# Altium footprint library 2230_TubePitotDeporte_Library_v1.0.0.PcbLib: 15 footprints
Each footprint in its own frame and in the unit in brackets; x right, y up, seen from the top. Pads: shape width x height; smd on the part's side, far side on the other; paste and mask are expansions set on the pad; w line width, h text height; cw(c..) or ccw(c..) is an arc to the next point about the centre after c.
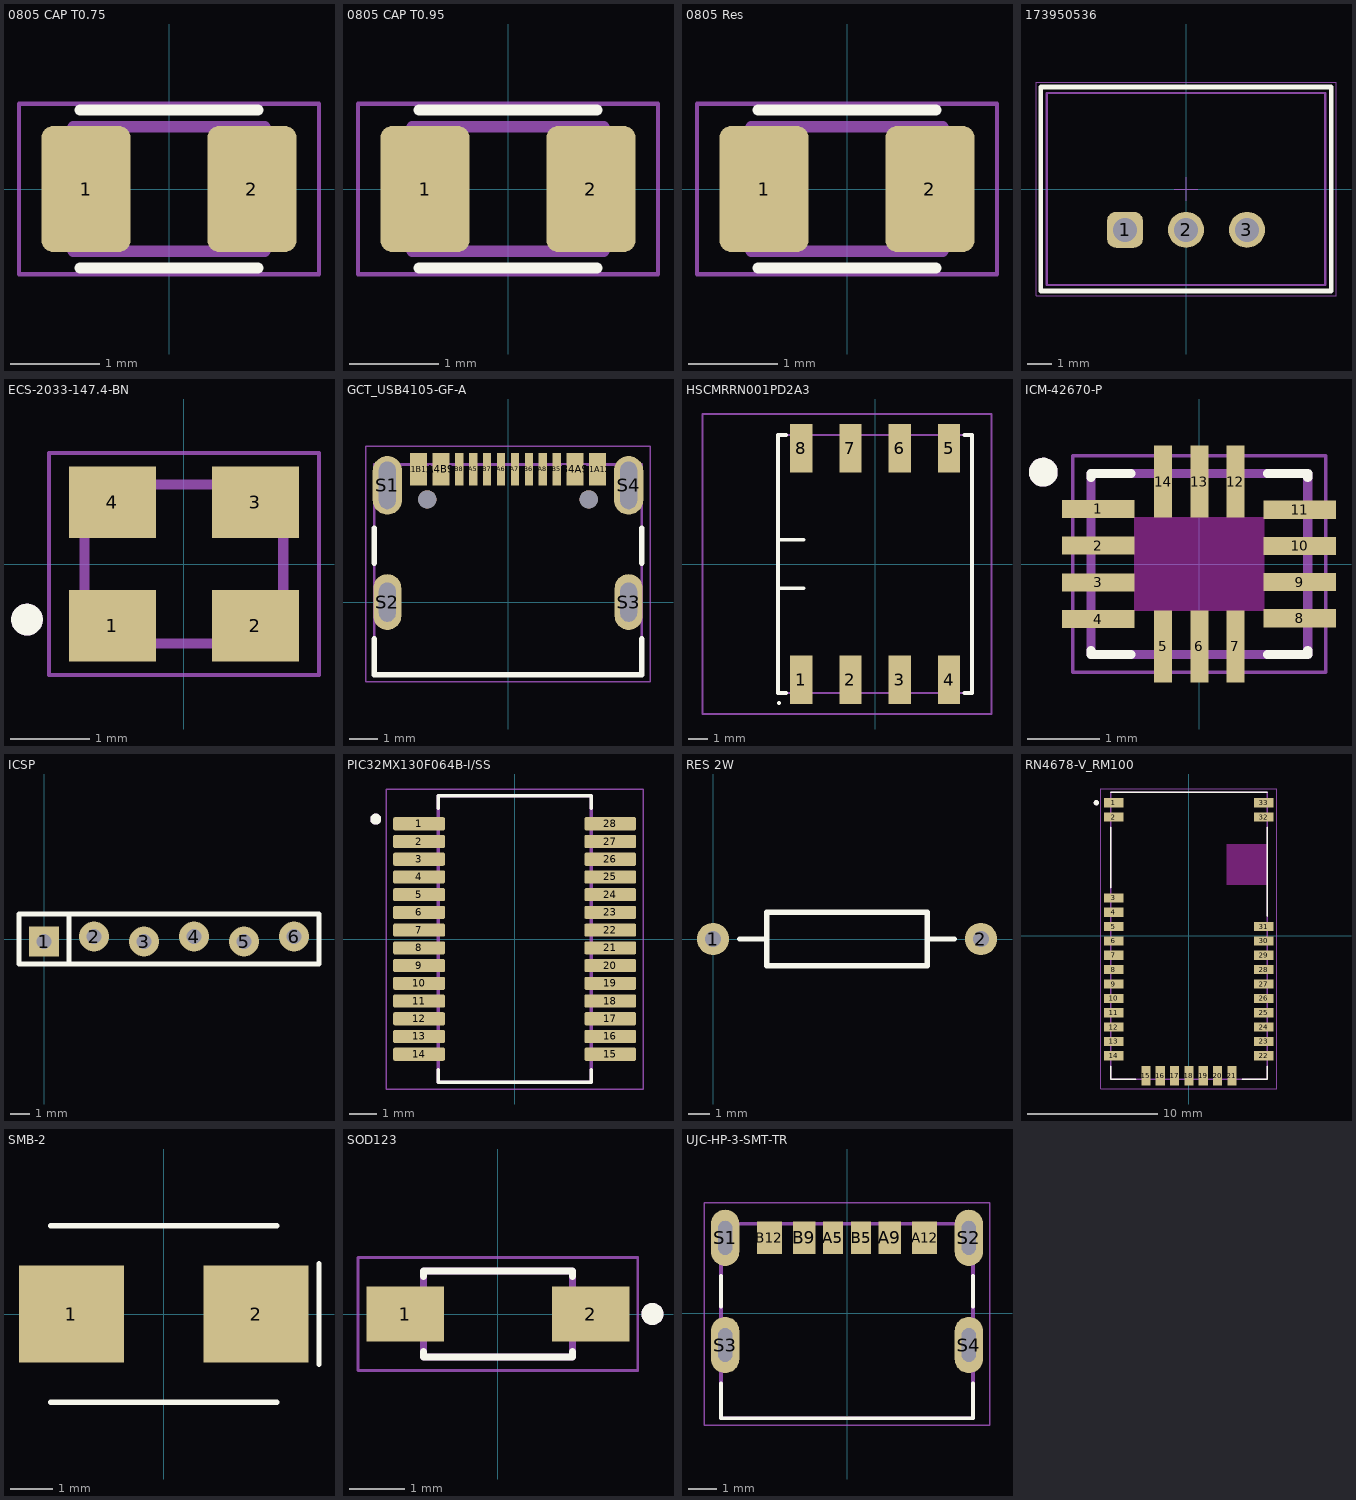
[diagram p0: the footprints below, top view; thin cyan lines are the x and y axes]

## 0805 CAP T0.75 [mm] "Small chip"
pads (2):
  rrect25% 1x1.42 smd: 1(-0.935,0) 2(0.935,0)
Top Overlay:
  lines w0.127: -1,-0.89 1,-0.89 ; -1,0.89 1,0.89
Top 3D Body:
  lines w0.127: -1.08,-0.7 -1.08,0.7 1.08,0.7 1.08,-0.7 -1.08,-0.7
Top Courtyard:
  lines w0.05: -1.69,-0.96 -1.69,0.96 1.69,0.96 1.69,-0.96 -1.69,-0.96
3D body "CAPC-0805-T0.75-BN.stp": height 0.75, standoff 0, extent -1.05,-0.675 1.05,0.675

## 0805 CAP T0.95 [mm]
pads (2):
  rrect25% 1x1.42 smd: 1(-0.935,0) 2(0.935,0)
Top Overlay:
  lines w0.127: -1,-0.89 1,-0.89 ; -1,0.89 1,0.89
Top 3D Body:
  lines w0.127: -1.08,-0.7 -1.08,0.7 1.08,0.7 1.08,-0.7 -1.08,-0.7
Top Courtyard:
  lines w0.05: -1.69,-0.96 -1.69,0.96 1.69,0.96 1.69,-0.96 -1.69,-0.96
3D body "CAPC-0805-T0.95-BN.stp": height 0.95, standoff 0, extent -1.05,-0.675 1.05,0.675

## 0805 Res [mm]
pads (2):
  rrect25% 1x1.42 smd: 1(-0.935,0) 2(0.935,0)
Top Overlay:
  lines w0.127: -1,-0.89 1,-0.89 ; -1,0.89 1,0.89
Top 3D Body:
  lines w0.127: -1.08,-0.7 -1.08,0.7 1.08,0.7 1.08,-0.7 -1.08,-0.7
Top Courtyard:
  lines w0.05: -1.69,-0.96 -1.69,0.96 1.69,0.96 1.69,-0.96 -1.69,-0.96
3D body "RES0805.stp": height 0.5, standoff 0, extent -1,-0.62 1,0.63

## 173950536 [mm] "Alim Buck All In"
pads (3):
  rrect50% 1.5x1.5 hole 1: 1(-2.54,-1.7)
  round 1.5 hole 1: 2(0,-1.7) 3(2.54,-1.7)
Top Overlay:
  lines w0.2: -6.05,-4.25 -6.05,4.25 6.05,4.25 6.05,-4.25 -6.05,-4.25
Top Component Outline:
  lines w0.1: -5.8,-4 5.8,-4 5.8,4 -5.8,4 -5.8,-4
Top 3D Body:
  lines w0.1: -5.8,-4 5.8,-4 5.8,4 -5.8,4 -5.8,-4
Top Courtyard:
  lines w0.05: -0.5,0 0.5,0 ; 0,-0.5 0,0.5 ; -6.25,-4.45 6.25,-4.45 6.25,4.45 -6.25,4.45 -6.25,-4.45
3D body "173010535.stp": height 10.5, standoff -4, extent -5.8,-4 5.8,4

## ECS-2033-147.4-BN [mm]
pads (4):
  rect 1.1x0.9 smd: 1(-0.9,-0.776) 2(0.9,-0.776) 3(0.9,0.776) 4(-0.9,0.776)
Top Overlay:
  circle w0.2: c-1.977,-0.7 r0.1
Top 3D Body:
  circle w0.2: c-1.977,-0.7 r0.1
  lines w0.127: -1.25,-1 1.25,-1 1.25,1 -1.25,1 -1.25,-1
Top Courtyard:
  lines w0.05: -1.7,-1.4 1.7,-1.4 1.7,1.4 -1.7,1.4 -1.7,-1.4
3D body "ECS-2033-147.4-BN.STEP": height 1, standoff 0, extent -1.25,-1 1.25,1

## GCT_USB4105-GF-A [mm]
pads (18):
  rect 0.6x1.15 smd: A1B12(-3.2,4.755) A4B9(-2.4,4.755) B1A12(3.2,4.755) B4A9(2.4,4.755)
  rect 0.3x1.15 smd: A5(-1.25,4.755) A6(-0.25,4.755) A7(0.25,4.755) A8(1.25,4.755) B5(1.75,4.755) B6(0.75,4.755) B7(-0.75,4.755) B8(-1.75,4.755)
  oval 1.05x2.1 hole 0.6 slot 1.7 at 90 deg: S1(-4.32,4.18) S4(4.32,4.18)
  oval 1x2 hole 0.6 slot 1.4 at 90 deg: S2(-4.32,0) S3(4.32,0)
  round 0.65 hole 0.65 unplated: ""(-2.89,3.68) ""(2.89,3.68)
Top Overlay:
  lines w0.2: -4.79,-1.32 -4.79,-2.6 4.79,-2.6 4.79,-1.32 ; -4.79,1.4 -4.79,2.65 ; 4.79,1.4 4.79,2.65
Top 3D Body:
  lines w0.1: -4.79,-2.6 4.79,-2.6 4.79,4.93 -4.79,4.93 -4.79,-2.6
Top Courtyard:
  lines w0.05: -5.1,-2.85 -5.1,5.58 5.1,5.58 5.1,-2.85 -5.1,-2.85
3D body "USB4105-15-A.stp": height 3.26, standoff -0.95, extent -4.47,-2.591 4.47,5.109

## HSCMRRN001PD2A3 [mm] "Capteur pression diff"
pads (8):
  rect 1.143x2.5 smd: 1(-3.81,-5.97) 2(-1.27,-5.97) 3(1.27,-5.97) 4(3.81,-5.97) 5(3.81,5.97) 6(1.27,5.97) 7(-1.27,5.97) 8(-3.81,5.97)
Top Overlay:
  lines w0.1: -4.953,-7.214 ccw(c-4.953,-7.164) -4.953,-7.114 ccw(c-4.953,-7.164) -4.953,-7.214
  lines w0.2: -5,-6.6 -5,-6.65 ; -5,-0.831 -5,-1.247 -3.679,-1.247 ; -5,0.831 -5,1.247 -3.679,1.247 ; -5,6.4 -5,6.65 ; -4.6,-6.65 -5,-6.65 ; -4.6,6.65 -5,6.65 ; 4.6,-6.65 5,-6.65 ; 4.6,6.65 5,6.65 ; 5,-6.4 5,-6.65 ; 5,6.4 5,6.65 ; -5,-6.65 -5,-3.325 -5,3.325 -5,6.65 ; 5,-6.65 5,6.65
Top Courtyard:
  lines w0.1: -5,-6.65 -5,6.65 5,6.65 5,-6.65 -5,-6.65
Mechanical 20:
  lines w0.1: -8.9,-7.732 -8.9,7.732 6,7.732 6,-7.732 -8.9,-7.732
3D body "HSCMRRN001PD2A3.step": height 6.7, standoff 0, extent -7.9,-6.55 5,6.55

## ICM-42670-P [mm] "IMU 6-axes"
pads (14):
  rect 1x0.25 smd mask+0.05: 1(-1.397,0.762) 2(-1.397,0.254) 3(-1.397,-0.254) 4(-1.397,-0.762) 8(1.391,-0.75) 9(1.391,-0.25) 10(1.391,0.25) 11(1.391,0.75)
  rect 0.25x1 smd mask+0.05: 5(-0.5,-1.141) 6(0,-1.141) 7(0.5,-1.141) 12(0.5,1.141) 13(0,1.141) 14(-0.5,1.141)
Top Overlay:
  circle w0.2: c-2.159,1.27 r0.1
  lines w0.127: -1.5,-1.195 -1.5,-1.25 -0.945,-1.25 ; -1.5,1.195 -1.5,1.25 -0.945,1.25 ; 0.945,-1.25 1.5,-1.25 1.5,-1.195 ; 0.945,1.25 1.5,1.25 1.5,1.195
Keep-Out Layer:
  region: 0.9,-0.65 -0.9,-0.65 -0.9,0.65 0.9,0.65
Top 3D Body:
  circle w0.2: c-2.159,1.27 r0.1
  lines w0.127: -1.5,-1.25 1.5,-1.25 1.5,1.25 -1.5,1.25 -1.5,-1.25
Top Courtyard:
  lines w0.05: -1.75,-1.5 1.75,-1.5 1.75,1.5 -1.75,1.5 -1.75,-1.5
3D body "step_temp.STEP": height 0.81, standoff 0, extent -1.5,-1.25 1.5,1.25

## ICSP [mil]
pads (6):
  rect 60x60 hole 30: 1(0,-5)
  round 60 hole 30: 2(100,5) 3(200,-5) 4(300,5) 5(400,-5) 6(500,5)
Top Overlay:
  lines w10: 50,-50 50,50 ; -50,-50 -50,50 550,50 550,-50 -50,-50
3D body "1x6 TH Vert 100mil.step": height 329.92, standoff -129.92, extent -50,-50 550,50

## PIC32MX130F064B-I/SS [mm]
pads (28):
  rrect25% 1.9x0.48 smd: 1(-3.505,4.225) 2(-3.505,3.575) 3(-3.505,2.925) 4(-3.505,2.275) 5(-3.505,1.625) 6(-3.505,0.975) 7(-3.505,0.325) 8(-3.505,-0.325) 9(-3.505,-0.975) 10(-3.505,-1.625) 11(-3.505,-2.275) 12(-3.505,-2.925) 13(-3.505,-3.575) 14(-3.505,-4.225) 15(3.505,-4.225) 16(3.505,-3.575) 17(3.505,-2.925) 18(3.505,-2.275) 19(3.505,-1.625) 20(3.505,-0.975) 21(3.505,-0.325) 22(3.505,0.325) 23(3.505,0.975) 24(3.505,1.625) 25(3.505,2.275) 26(3.505,2.925) 27(3.505,3.575) 28(3.505,4.225)
Top Overlay:
  circle w0.2: c-5.095,4.395 r0.1
  lines w0.127: -2.8,-4.79 -2.8,-5.25 2.8,-5.25 2.8,-4.79 ; -2.8,4.79 -2.8,5.25 2.8,5.25 2.8,4.79
Top 3D Body:
  circle w0.2: c-5.095,4.395 r0.1
  lines w0.127: -2.8,-5.25 2.8,-5.25 2.8,5.25 -2.8,5.25 -2.8,-5.25
Top Courtyard:
  lines w0.05: -4.705,-5.5 4.705,-5.5 4.705,5.5 -4.705,5.5 -4.705,-5.5
3D body "PIC32MX130F064B-I_SS.stp": height 2, standoff 0, extent -3.9,-5.1 3.9,5.1

## RES 2W [mil]
pads (2):
  round 60 hole 30: 1(0,0) 2(500,0)
Top Overlay:
  lines w10: 50,0 100,0 ; 400,0 450,0 ; 100,0 100,50 400,50 400,-50 100,-50 100,0

## RN4678-V_RM100 [mm] "Module bluetooth"
pads (33):
  rect 1.5x0.7 smd: 1(-5.75,10.2) 2(-5.75,9.1) 3(-5.75,2.9) 4(-5.75,1.8) 5(-5.75,0.7) 6(-5.75,-0.4) 7(-5.75,-1.5) 8(-5.75,-2.6) 9(-5.75,-3.7) 10(-5.75,-4.8) 11(-5.75,-5.9) 12(-5.75,-7) 13(-5.75,-8.1) 14(-5.75,-9.2) 22(5.75,-9.2) 23(5.75,-8.1) 24(5.75,-7) 25(5.75,-5.9) 26(5.75,-4.8) 27(5.75,-3.7) 28(5.75,-2.6) 29(5.75,-1.5) 30(5.75,-0.4) 31(5.75,0.7) 32(5.75,9.1) 33(5.75,10.2)
  rect 0.7x1.5 smd: 15(-3.3,-10.75) 16(-2.2,-10.75) 17(-1.1,-10.75) 18(0,-10.75) 19(1.1,-10.75) 20(2.2,-10.75) 21(3.3,-10.75)
Top Overlay:
  circle w0.2: c-7.1,10.2 r0.1
  lines w0.127: -6,-10 -6,-11 -4.1,-11 ; -6,3.7 -6,8.3 ; -6,11 6,11 ; 4.1,-11 6,-11 6,-10 ; 6,1.5 6,8.3
Keep-Out Layer:
  region: 6,3.9 2.9,3.9 2.9,7 6,7
  region: 6,3.9 2.9,3.9 2.9,7 6,7
Top 3D Body:
  circle w0.2: c-7.1,10.2 r0.1
  lines w0.127: -6,-11 6,-11 6,11 -6,11 -6,-11
Top Courtyard:
  lines w0.05: -6.75,-11.75 6.75,-11.75 6.75,11.25 -6.75,11.25 -6.75,-11.75
3D body "RM100--3DModel-STEP-56544.STEP": height 2.4, standoff 0, extent -6,-11 6,11

## SMB-2 [mm]
pads (2):
  rect 2.5x2.3 smd: 1(-2.2,0) 2(2.2,0)
Top Overlay:
  lines w0.127: -2.7,-2.1 2.7,-2.1 ; -2.7,2.1 2.7,2.1 ; 3.7,-1.2 3.7,1.2
3D body "SMB (DO-214AA).STEP": height 2.5, standoff 0, extent -2.7,-1.95 2.7,1.95

## SOD123 [mm]
pads (2):
  rect 1.4x1 smd: 1(-1.68,0) 2(1.68,0)
Top Overlay:
  circle w0.2: c2.8,0 r0.1
  lines w0.127: -1.35,-0.68 -1.35,-0.775 1.35,-0.775 1.35,-0.68 ; -1.35,0.68 -1.35,0.775 1.35,0.775 1.35,0.68
Top 3D Body:
  circle w0.2: c2.8,0 r0.1
  lines w0.127: -1.35,-0.775 -1.35,0.775 1.35,0.775 1.35,-0.775 -1.35,-0.775
Top Courtyard:
  lines w0.05: -2.535,-1.025 -2.535,1.025 2.535,1.025 2.535,-1.025 -2.535,-1.025
3D body "step_temp.STEP": height 1.43, standoff -0.02, extent -1.825,-0.775 1.825,0.775

## UJC-HP-3-SMT-TR [mm]
pads (10):
  rect 0.7x1.15 smd: A5(-0.5,2.672) B5(0.5,2.672)
  rect 0.8x1.15 smd: A9(1.52,2.672) B9(-1.52,2.672)
  rect 0.9x1.15 smd: A12(2.75,2.672) B12(-2.75,2.672)
  oval 1x2 hole 0.5 slot 1.2 at 90 deg: S1(-4.32,2.667) S2(4.32,2.667) S3(-4.32,-1.133) S4(4.32,-1.133)
Top Overlay:
  lines w0.127: -4.47,-2.483 -4.47,-3.733 4.47,-3.733 4.47,-2.483 ; -4.47,0.217 -4.47,1.317 ; 4.47,0.217 4.47,1.317
Top 3D Body:
  lines w0.127: -4.47,-3.733 4.47,-3.733 4.47,3.167 -4.47,3.167 -4.47,-3.733
Top Courtyard:
  lines w0.05: -5.07,-3.983 5.07,-3.983 5.07,3.917 -5.07,3.917 -5.07,-3.983
3D body: height 3.16, standoff 0, extent -4.47,-3.734 4.47,3.175